# EAGLE library part TLC5971 (library BEEP)
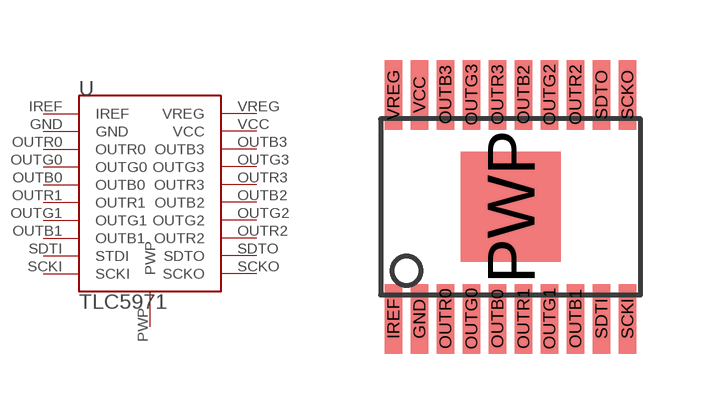
[diagram p3: symbol with the pads of HTSSOP-20(PWP); footprint HTSSOP-20(PWP)]

Designator prefix -

## TLC5971  [HTSSOP-20(PWP)]
GND  GND  pwr
IREF  IREF  in
OUTB0  OUTB0  out
OUTB1  OUTB1  out
OUTB2  OUTB2  out
OUTB3  OUTB3  out
OUTG0  OUTG0  out
OUTG1  OUTG1  out
OUTG2  OUTG2  out
OUTG3  OUTG3  out
OUTR0  OUTR0  out
OUTR1  OUTR1  out
OUTR2  OUTR2  out
OUTR3  OUTR3
PWP  PWP
SCKI  SCKI
SCKO  SCKO
SDTI  STDI
SDTO  SDTO
VCC  VCC  pwr
VREG  VREG  pwr

## Footprint HTSSOP-20(PWP) (pad centres in mm)
smd 0.44 x 1.74: GND -2.275,-2.8; IREF -2.925,-2.8; OUTB0 -0.325,-2.8; OUTB1 1.625,-2.8; OUTB2 0.325,2.8; OUTB3 -1.625,2.8; OUTG0 -0.975,-2.8; OUTG1 0.975,-2.8; OUTG2 0.975,2.8; OUTG3 -0.975,2.8; OUTR0 -1.625,-2.8; OUTR1 0.325,-2.8; OUTR2 1.625,2.8; OUTR3 -0.325,2.8; SCKI 2.925,-2.8; SCKO 2.925,2.8; SDTI 2.275,-2.8; SDTO 2.275,2.8; VCC -2.275,2.8; VREG -2.925,2.8
smd 2.5 x 2.75: PWP 0,0